# Altium schematic symbol library fuse.SchLib: 1 symbol
Pins are listed as number, name and electrical type; pins without a type are passive.

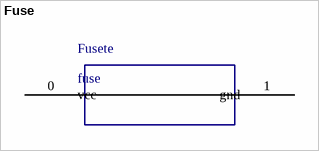
[diagram p0: symbol Fuse]

## Fuse
designator Fusete, comment fuse
footprint FUSE
pins: 0 vcc, 1 gnd